# Altium footprint library 4306R-101-102LF.PcbLib: 1 footprints
Each footprint in its own frame and in the unit in brackets; x right, y up, seen from the top. Pads: shape width x height; smd on the part's side, far side on the other; paste and mask are expansions set on the pad; w line width, h text height; cw(c..) or ccw(c..) is an arc to the next point about the centre after c.
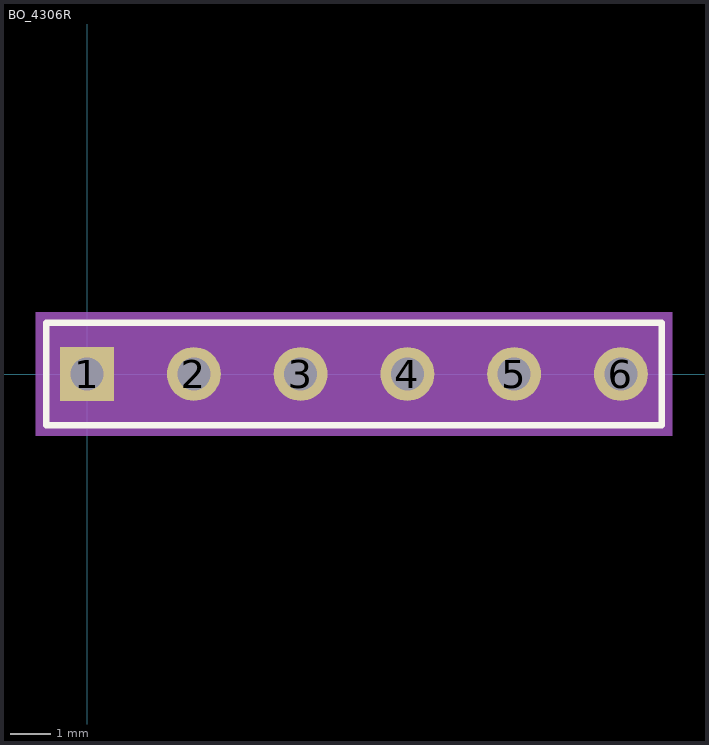
[diagram p0: the footprint, top view; thin cyan lines are the x and y axes]

## BO_4306R [mil]
pads (6):
  rect 52x52 hole 32 mask+0: 1(0,0)
  round 52 hole 32 mask+0: 2(103,0) 3(206,0) 4(309,0) 5(412,0) 6(515,0)
Top Overlay:
  lines w6: -39.5,-49.5 554.5,-49.5 554.5,49.5 -39.5,49.5 -39.5,-49.5
Mechanical 5:
  region: -49.5,59.5 564.5,59.5 564.5,-59.5 -49.5,-59.5
Mechanical 13:
  lines w1: -34.5,-44.5 549.5,-44.5 549.5,44.5 -34.5,44.5 -34.5,-44.5
Mechanical 15:
  region: 559.5,54.5 -44.5,54.5 -44.5,-54.5 559.5,-54.5
  lines w6: -44.5,-54.5 -44.5,54.5 559.5,54.5 559.5,-54.5 -44.5,-54.5
3D body "BO_4306R.step": height 195, standoff -187.99, extent -34.49,-44.49 549.49,44.49